# EAGLE library part BTS6110-1SJA (library PROFET - Infineon)
BTS6110-1SJA Smart High-Side Power Switch SOIC127P600X170-8N
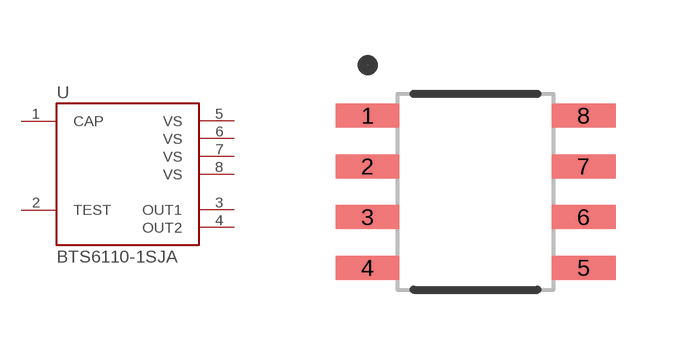
[diagram p65: symbol with the pads of SOIC127P600X170-8N; footprint SOIC127P600X170-8N]

Designator prefix U

## BTS6110-1SJA  [SOIC127P600X170-8N]
1  CAP  pas
2  TEST  pas
3  OUT1  out
4  OUT2  out
5  VS  pwr
6  VS  pwr
7  VS  pwr
8  VS  pwr

## Footprint SOIC127P600X170-8N (pad centres in mm)
Original name SOIC127P600X170-8N Max Component Height - 1.70mm
smd 1.6 x 0.6: 1 -2.7,1.905; 2 -2.7,0.635; 3 -2.7,-0.635; 4 -2.7,-1.905; 5 2.7,-1.905; 6 2.7,-0.635; 7 2.7,0.635; 8 2.7,1.905